# Altium footprint library PCBLIB1.PCBLIB: 2 footprints
Each footprint in its own frame and in the unit in brackets; x right, y up, seen from the top. Pads: shape width x height; smd on the part's side, far side on the other; paste and mask are expansions set on the pad; w line width, h text height; cw(c..) or ccw(c..) is an arc to the next point about the centre after c.
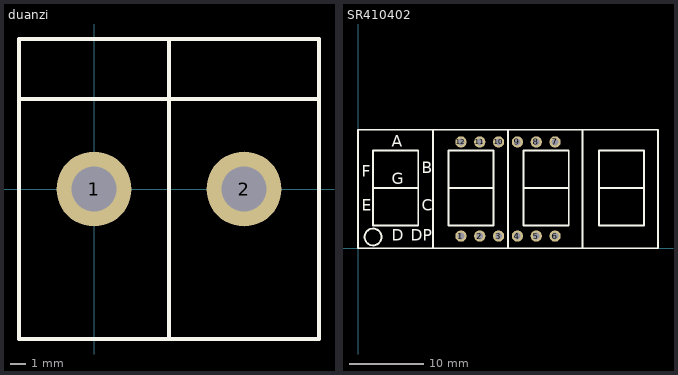
[diagram p0: the footprints below, top view; thin cyan lines are the x and y axes]

## duanzi [mm]
pads (2):
  round 5 hole 3: 1(0,0) 2(10,0)
TopOverlay:
  lines w0.254: -5,6 15,6 ; 5,-10 5,10 ; -5,-10 15,-10 15,10 -5,10 -5,-10

## SR410402 [mm]
pads (12):
  round 1.524 hole 0.9: 1(13.9,1.65) 2(16.44,1.65) 3(18.98,1.65) 4(21.52,1.65) 5(24.06,1.65) 6(26.6,1.65) 7(26.6,14.35) 8(24.06,14.35) 9(21.52,14.35) 10(18.98,14.35) 11(16.44,14.35) 12(13.9,14.35)
TopOverlay:
  circle w0.254: c2.032,1.524 r1.136
  lines w0.254: 2.032,8.128 8.128,8.128 ; 10.125,0 10.125,16 ; 12.192,8.128 18.288,8.128 ; 20.25,0 20.25,16 ; 22.352,8.128 28.448,8.128 ; 30.332,0 30.332,16 ; 32.512,8.128 38.608,8.128 ; 0,0 40.5,0 40.5,16 0,16 0,0 ; 2.032,3.048 8.128,3.048 8.128,13.208 2.032,13.208 2.032,3.048 ; 12.192,3.048 18.288,3.048 18.288,13.208 12.192,13.208 12.192,3.048 ; 22.352,3.048 28.448,3.048 28.448,13.208 22.352,13.208 22.352,3.048 ; 32.512,3.048 38.608,3.048 38.608,13.208 32.512,13.208 32.512,3.048
  text "DP" at 7.112,1.016 h1.52
  text "F" at 0.508,9.652 h1.52
  text "G" at 4.572,8.636 h1.52
  text "E" at 0.508,5.08 h1.52
  text "D" at 4.572,1.016 h1.52
  text "C" at 8.636,5.08 h1.52
  text "B" at 8.636,10.16 h1.52
  text "A" at 4.572,13.716 h1.52